# Altium schematic symbol library My_Schlib.SchLib: 5 symbols
Pins are listed as number, name and electrical type; pins without a type are passive.

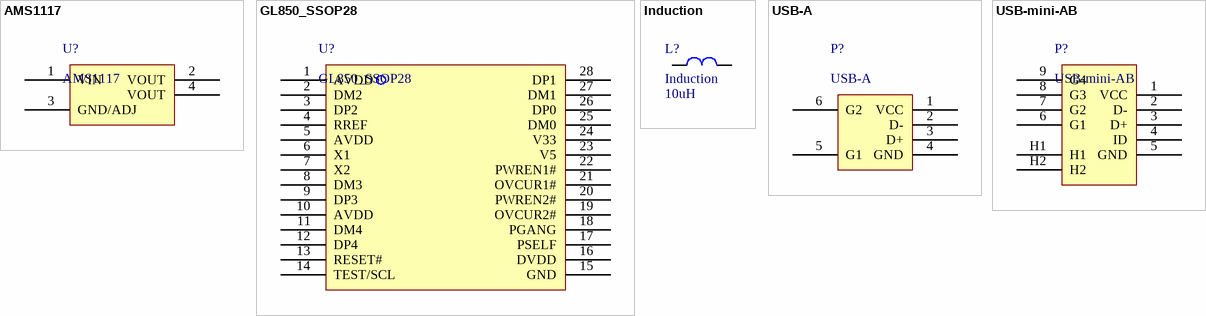
[diagram p0: symbols AMS1117 to USB-mini-AB]

## AMS1117
designator U?
footprint SOT223 (SOT223, 4-Leads, Body 6.5x3.5mm, Pitch 2.3mm, Lead Span 7mm, IPC Medium Density)
pins: 1 VIN, 2 VOUT, 3 GND/ADJ, 4 VOUT

## GL850_SSOP28
designator U?
footprint SSOP-28
pins: 1 AVDD, 2 DM2, 3 DP2, 4 RREF, 5 AVDD, 6 X1, 7 X2, 8 DM3, 9 DP3, 10 AVDD, 11 DM4, 12 DP4, 13 RESET#, 14 TEST/SCL, 15 GND, 16 DVDD, 17 PSELF, 18 PGANG, 19 OVCUR2#, 20 PWREN2#, 21 OVCUR1#, 22 PWREN1#, 23 V5, 24 V33, 25 DM0, 26 DP0, 27 DM1, 28 DP1

## Induction
designator L?  value 10uH
pins: 1, 2

## USB-A
designator P?
footprint USB-A
pins: 1 VCC, 2 D-, 3 D+, 4 GND, 5 G1, 6 G2

## USB-mini-AB
designator P?
footprint USBmini
pins: 1 VCC, 2 D-, 3 D+, 4 ID, 5 GND, 6 G1, 7 G2, 8 G3, 9 G4, H1, H2